# Altium schematic symbol library NC7NZ17.SchLib: 1 symbol
Pins are listed as number, name and electrical type; pins without a type are passive.

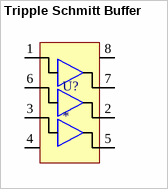
[diagram p0: symbol Tripple Schmitt Buffer]

## Tripple Schmitt Buffer
designator U?
Tripple Schmitt Buffer; Part No.: NC7NZ17; Manufacturer: Fairchild Semiconductor; Vendor: Mouser; Price Est.: $0.50
footprint JEDEC MO-187
pins: 1, 2, 3, 4 GND, 5, 6, 7, 8 VCC